# Altium integrated library MCP2561E_SN.IntLib: 2 symbols
Pins are listed as number, name and electrical type; pins without a type are passive.

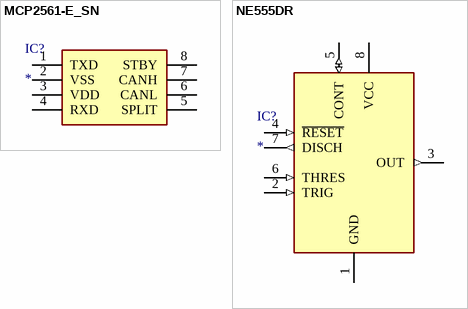
[diagram p0: symbols MCP2561-E_SN to NE555DR]

## MCP2561-E_SN
designator IC?
Integrated Circuit; Manufacturer_Name: Microchip; Manufacturer_Part_Number: MCP2561-E/SN; Description: CAN Transceiver 1Mbps 5V 125degC SOIC8 Microchip MCP2561-E/SN; Datasheet Link: http://uk.rs-online.com/web/p/products/7990216; Height: 1.75mm; Arrow Part Number: MCP2561-E/SN; Arrow Price/Stock: https://www.arrow.com/en/products/mcp2561-esn/microchip-technology; Mouser Part Number: 579-MCP2561-E/SN; Mouser Price/Stock: https://www.mouser.co.uk/ProductDetail/Microchip-Technology/MCP2561-E-SN?qs=6qKXPk0vzx28OXZ8VYnZ2A%3D%3D
footprint SOIC127P600X175-8N
pins: 1 TXD, 2 VSS, 3 VDD, 4 RXD, 5 SPLIT, 6 CANL, 7 CANH, 8 STBY

## NE555DR
designator IC?
Integrated Circuit; Manufacturer_Name: Texas Instruments; Manufacturer_Part_Number: NE555DR; Datasheet Link: http://www.ti.com/lit/ds/symlink/ne555.pdf; Height: 1.75mm; Mouser Part Number: 595-NE555DR; Mouser Price/Stock: https://www.mouser.com/Search/Refine.aspx?Keyword=595-NE555DR; RS Part Number: 1218414; RS Price/Stock: http://uk.rs-online.com/web/p/products/1218414
footprint SOIC127P600X175-8N
pins: 1 GND (power), 2 TRIG (in), 3 OUT (out), 4 ~{RESET} (in), 5 CONT (io), 6 THRES (in), 7 DISCH (out), 8 VCC (power)